# Altium schematic symbol library SamacSys.SchLib: 1311 symbols (part 7 of 14)
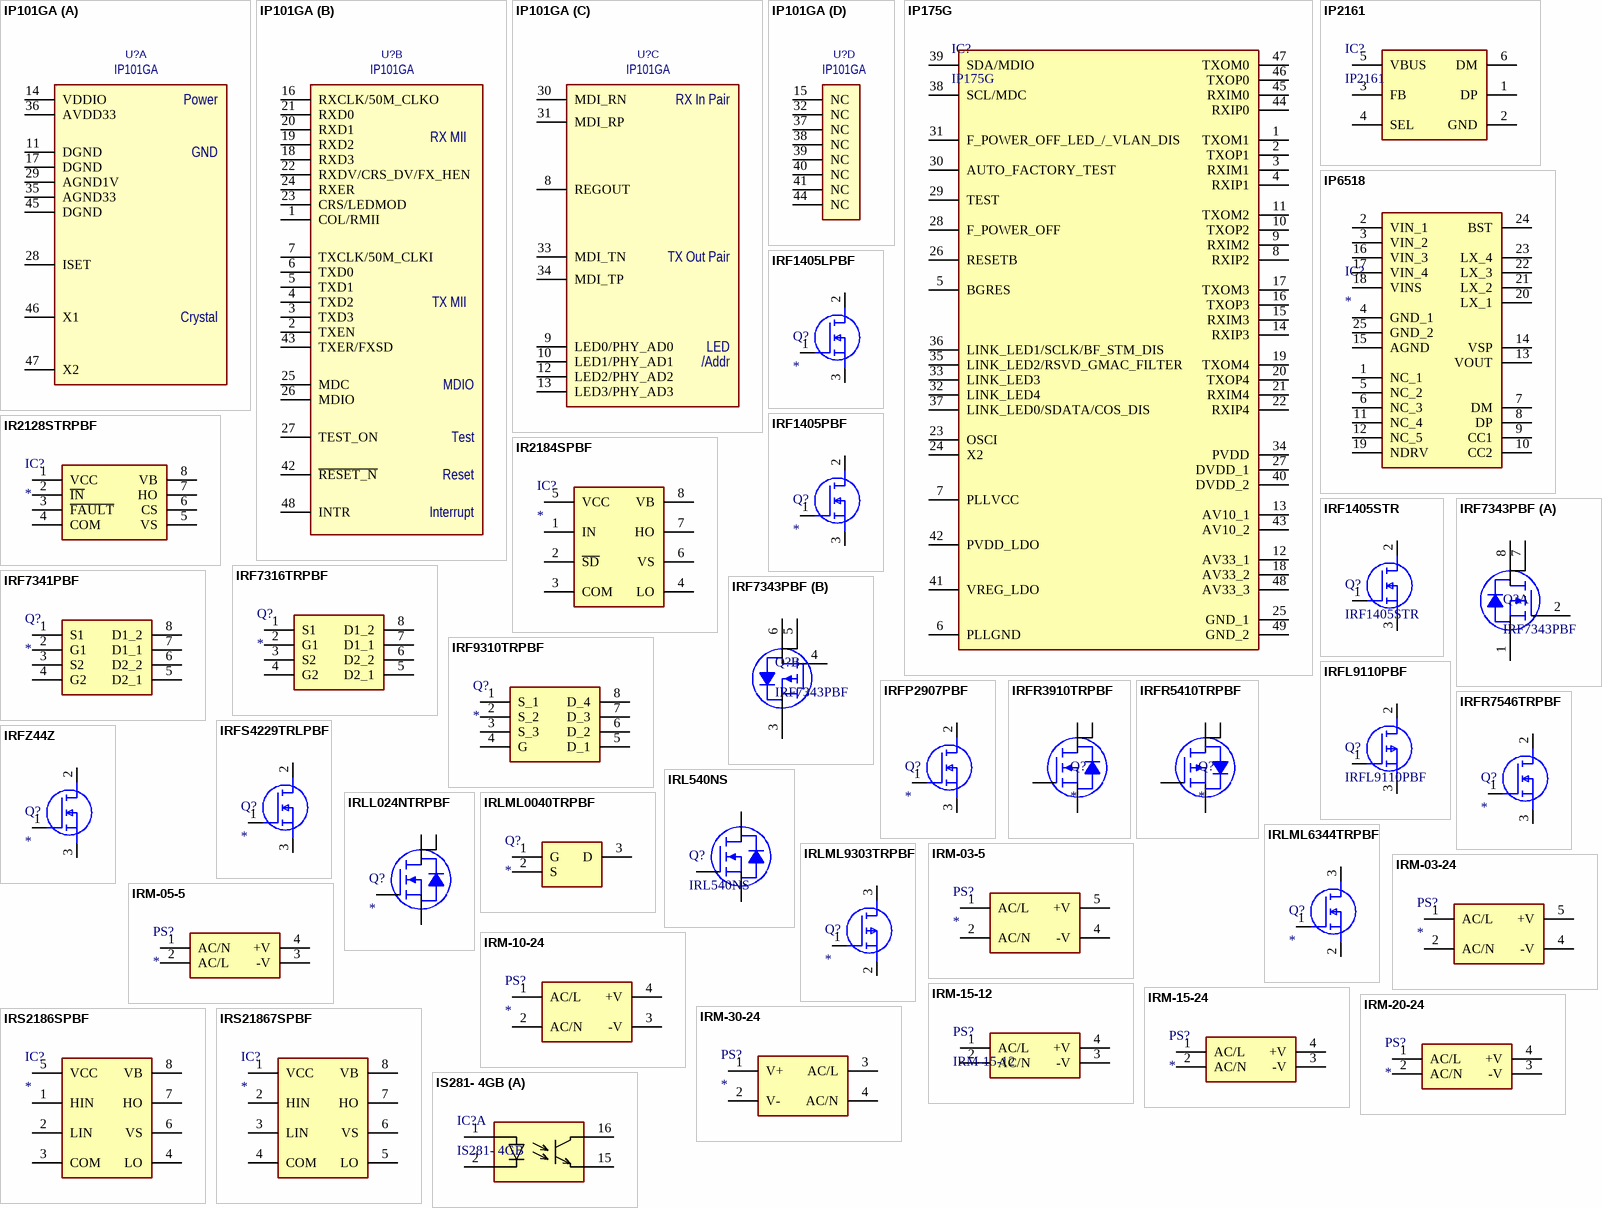
[diagram p56: symbols IP101GA to IS281- 4GB]

## IP6518
designator IC?
Integrated Circuit; Manufacturer_Name: INJOINIC Technology; Manufacturer_Part_Number: ip6518; Datasheet Link: http://www.injoinic.com/wwwroot/uploads/files/20200220/c55f78d32299df716a7c737ce28c2af2.pdf; Height: 0.8mm
footprint QFN50P400X400X80-25N-D
pins: 1 NC_1, 2 VIN_1, 3 VIN_2, 4 GND_1, 5 NC_2, 6 NC_3, 7 DM, 8 DP, 9 CC1, 10 CC2, 11 NC_4, 12 NC_5, 13 VOUT, 14 VSP, 15 AGND, 16 VIN_3, 17 VIN_4, 18 VINS, 19 NDRV, 20 LX_1, 21 LX_2, 22 LX_3, 23 LX_4, 24 BST, 25 GND_2

## IR2128STRPBF
designator IC?
Integrated Circuit; Manufacturer_Name: Infineon; Manufacturer_Part_Number: IR2128STRPBF; Datasheet Link: https://www.mouser.com/datasheet/2/196/Infineon_ir2127_DS_v01_00_EN-1227992.pdf; Height: 1.75mm; Mouser Part Number: 942-IR2128STRPBF; Mouser Price/Stock: https://www.mouser.co.uk/ProductDetail/Infineon-Technologies/IR2128STRPBF?qs=ellYJlE8XiGRviatAIz%2Fdw%3D%3D; Arrow Part Number: IR2128STRPBF; Arrow Price/Stock: https://www.arrow.com/en/products/ir2128strpbf/infineon-technologies-ag
footprint SOIC127P600X175-8N
pins: 1 VCC, 2 ~{IN}, 3 ~{FAULT}, 4 COM, 5 VS, 6 CS, 7 HO, 8 VB

## IR2184SPBF
designator IC?
Integrated Circuit; Manufacturer_Name: Infineon; Manufacturer_Part_Number: IR2184SPBF; Datasheet Link: https://www.infineon.com/cms/en/product/power/gate-driver-ics/?; Height: 1.75mm; Mouser Part Number: 942-IR2184SPBF; Mouser Price/Stock: https://www.mouser.co.uk/ProductDetail/Infineon-Technologies/IR2184SPBF?qs=dQmlx5f5cRIr5S5otnBboQ%3D%3D; Arrow Part Number: IR2184SPBF; Arrow Price/Stock: https://www.arrow.com/en/products/ir2184spbf/infineon-technologies-ag?region=europe
footprint SOIC127P600X175-8N
pins: 1 IN, 2 ~{SD}, 3 COM, 4 LO, 5 VCC, 6 VS, 7 HO, 8 VB

## IRF1405LPBF
designator Q?
MOSFET (N-Channel); Manufacturer_Name: Infineon; Manufacturer_Part_Number: IRF1405LPBF; Datasheet Link: https://www.infineon.com/dgdl/irf1405spbf.pdf?fileId=5546d462533600a4015355db101d18bd; Height: 4.83mm
footprint TO254P483X1016X1501-3P
pins: 1 G, 2 D, 3 S

## IRF1405PBF
designator Q?
MOSFET (N-Channel); Manufacturer_Name: Infineon; Manufacturer_Part_Number: IRF1405PBF; Datasheet Link: https://www.infineon.com/dgdl/irf1405pbf.pdf?fileId=5546d462533600a4015355db084a18bb; Height: 4.83mm; Mouser Part Number: 942-IRF1405PBF; Mouser Price/Stock: https://www.mouser.co.uk/ProductDetail/Infineon-Technologies/IRF1405PBF?qs=2r01AXMCG3PbVtF5tHk0jQ%3D%3D; Arrow Part Number: IRF1405PBF; Arrow Price/Stock: https://www.arrow.com/en/products/irf1405pbf/infineon-technologies-ag?region=europe
footprint TO254P483X1016X1994-3P
footprint TO254P483X1016X1994-3P_heatsink (with SK29-38S heatsink)
pins: 1 G, 2 D, 3 S

## IRF1405STR
designator Q?
MOSFET (N-Channel), 55V, 131A; Manufacturer_Name: Infineon; Datasheet Link: https://www.infineon.com/dgdl/irf1405spbf.pdf?fileId=5546d462533600a4015355db101d18bd; Height: 4.83mm; Manufacturer_Part_Number: IRF1405STR
footprint TO-263 (D2PAK)
pins: 1 G, 2 D, 3 S

## IRF7316TRPBF
designator Q?
Transistor; Manufacturer_Name: Infineon; Manufacturer_Part_Number: IRF7316TRPBF; Datasheet Link: https://datasheet.datasheetarchive.com/originals/distributors/Datasheets_SAMA/3e54ddf14293916d149d77f0514a31fb.pdf; Height: 1.75mm; Mouser Part Number: 942-IRF7316TRPBF; Mouser Price/Stock: https://www.mouser.co.uk/ProductDetail/Infineon-Technologies/IRF7316TRPBF?qs=9%252BKlkBgLFf1%252BV%2Fdbm7rl%252Bw%3D%3D; Arrow Part Number: IRF7316TRPBF; Arrow Price/Stock: https://www.arrow.com/en/products/irf7316trpbf/infineon-technologies-ag?utm_currency=USD&region=europe
footprint SOIC127P600X175-8N
pins: 1 S1, 2 G1, 3 S2, 4 G2, 5 D2_1, 6 D2_2, 7 D1_1, 8 D1_2

## IRF7341PBF
designator Q?
Transistor; Manufacturer_Name: Infineon; Manufacturer_Part_Number: IRF7341PBF; Datasheet Link: https://www.infineon.com/dgdl/irf7341pbf.pdf?fileId=5546d462533600a4015355f64f031b63; Height: 1.75mm; Mouser Part Number: 942-IRF7341PBF; Mouser Price/Stock: https://www.mouser.com/Search/Refine.aspx?Keyword=942-IRF7341PBF; Arrow Part Number: IRF7341PBF; Arrow Price/Stock: https://www.arrow.com/en/products/irf7341pbf/infineon-technologies-ag
footprint SOIC127P600X175-8N
pins: 1 S1, 2 G1, 3 S2, 4 G2, 5 D2_1, 6 D2_2, 7 D1_1, 8 D1_2

## IRF7343PBF
designator Q?
MOSFET DUAL P/N-ch 5/-5A; Manufacturer_Name: Infineon; Datasheet Link: https://www.infineon.com/dgdl/irf7343pbf.pdf?fileId=5546d462533600a4015355f68c1a1b73; Height: 1.75mm; Manufacturer_Part_Number: IRF7343PBF; Mouser Part Number: 942-IRF7343PBF; Mouser Price/Stock: https://www.mouser.co.uk/ProductDetail/Infineon-IR/IRF7343PBF?qs=oV44URRYgr3BtQItr9FXKw%3D%3D; Arrow Part Number: IRF7343PBF; Arrow Price/Stock: https://www.arrow.com/en/products/irf7343pbf/infineon-technologies-ag
footprint SOIC127P600X175-8N
part A pins: 1 S1, 2 G1, 7 D1_1, 8 D1_2
part B pins: 3 S2, 4 G2, 5 D2_1, 6 D2_2

## IRF9310TRPBF
designator Q?
MOSFET (P-Channel); Manufacturer_Name: Infineon; Manufacturer_Part_Number: IRF9310TRPBF; Datasheet Link: http://uk.rs-online.com/web/p/products/8273912; Height: 1.75mm; Mouser Part Number: 942-IRF9310TRPBF; Mouser Price/Stock: https://www.mouser.co.uk/ProductDetail/Infineon-IR/IRF9310TRPBF?qs=9%252BKlkBgLFf0NoechZyOTDg%3D%3D; Arrow Part Number: IRF9310TRPBF; Arrow Price/Stock: https://www.arrow.com/en/products/irf9310trpbf/infineon-technologies-ag
footprint SOIC127P600X175-8N
pins: 1 S_1, 2 S_2, 3 S_3, 4 G, 5 D_1, 6 D_2, 7 D_3, 8 D_4

## IRFL9110PBF
designator Q?
MOSFET (P-Channel) 100V 1.1A SOT223; Manufacturer_Name: Vishay; Datasheet Link: http://www.vishay.com/docs/91196/sihfl911.pdf; Height: 1.8mm; Manufacturer_Part_Number: IRFL9110PBF; Mouser Part Number: 844-IRFL9110PBF; Mouser Price/Stock: https://www.mouser.com/Search/Refine.aspx?Keyword=844-IRFL9110PBF
footprint SOT230P700X180-4N; pin to pad 2>2+4
pins: 1 G, 2 D, 3 S

## IRFP2907PBF
designator Q?
MOSFET (N-Channel); Manufacturer_Name: Infineon; Manufacturer_Part_Number: IRFP2907PBF; Datasheet Link: https://www.infineon.com/dgdl/irfp2907pbf.pdf?fileId=5546d462533600a401535628b2d51fe8; Height: 5.31mm; Mouser Part Number: 942-IRFP2907PBF; Mouser Price/Stock: https://www.mouser.co.uk/ProductDetail/Infineon-Technologies/IRFP2907PBF?qs=XgnB68EmdM1ZjadeHZwM5g%3D%3D; Arrow Part Number: IRFP2907PBF; Arrow Price/Stock: https://www.arrow.com/en/products/irfp2907pbf/infineon-technologies-ag
footprint TO546P531X1558X2499-3P (Footprint not found)
pins: 1 G, 2 D, 3 S

## IRFR3910TRPBF
designator Q?
Transistor; Manufacturer_Name: Infineon; Manufacturer_Part_Number: IRFR3910TRPBF; Datasheet Link: https://datasheet.datasheetarchive.com/originals/distributors/Datasheets_SAMA/52abf61b6082e0f6e43a5ed063c01714.pdf; Height: 2.39mm; Mouser Part Number: 942-IRFR3910TRPBF; Mouser Price/Stock: https://www.mouser.co.uk/ProductDetail/Infineon-IR/IRFR3910TRPBF?qs=XgnB68EmdM1RmOWRQY7vfw%3D%3D; Arrow Part Number: IRFR3910TRPBF; Arrow Price/Stock: https://www.arrow.com/en/products/irfr3910trpbf/infineon-technologies-ag?region=nac
footprint TO229P990X238-4N
pins: 1 G, 2 D, 3 S, 4 D

## IRFR5410TRPBF
designator Q?
Transistor; Manufacturer_Name: Infineon; Manufacturer_Part_Number: IRFR3910TRPBF; Datasheet Link: https://datasheet.datasheetarchive.com/originals/distributors/Datasheets_SAMA/52abf61b6082e0f6e43a5ed063c01714.pdf; Height: 2.39mm; Mouser Part Number: 942-IRFR3910TRPBF; Mouser Price/Stock: https://www.mouser.co.uk/ProductDetail/Infineon-IR/IRFR3910TRPBF?qs=XgnB68EmdM1RmOWRQY7vfw%3D%3D; Arrow Part Number: IRFR3910TRPBF; Arrow Price/Stock: https://www.arrow.com/en/products/irfr3910trpbf/infineon-technologies-ag?region=nac
footprint TO229P990X238-4N
pins: 1 G, 2 D, 3 S, 4 D

## IRFR7546TRPBF
designator Q?
MOSFET (N-Channel); Manufacturer_Name: Infineon; Manufacturer_Part_Number: IRFR7546TRPBF; Datasheet Link: https://www.infineon.com/dgdl/Infineon-IRFR7546-DataSheet-v01_01-EN.pdf?fileId=5546d462533600a401535635b9b3211f; Height: 2.52mm; Mouser Part Number: 942-IRFR7546TRPBF; Mouser Price/Stock: https://www.mouser.co.uk/ProductDetail/Infineon-IR/IRFR7546TRPBF?qs=NBFAU1oqP4VxNaQV6oj2cA%3D%3D; Arrow Part Number: IRFR7546TRPBF; Arrow Price/Stock: https://www.arrow.com/en/products/irfr7546trpbf/infineon-technologies-ag?region=nac
footprint IRFR7546TRPBF
pins: 1 G, 2 D, 3 S

## IRFS4229TRLPBF
designator Q?
MOSFET (N-Channel); Manufacturer_Name: Infineon; Manufacturer_Part_Number: IRFS4229TRLPBF; Datasheet Link: https://www.infineon.com/dgdl/irfs4229pbf.pdf?fileId=5546d462533600a401535639fdc421a1; Height: 5.084mm; Mouser Part Number: 942-IRFS4229TRLPBF; Mouser Price/Stock: https://www.mouser.co.uk/ProductDetail/Infineon-IR/IRFS4229TRLPBF?qs=9%252BKlkBgLFf0h%2FVzcoVYklQ%3D%3D; Arrow Part Number: IRFS4229TRLPBF; Arrow Price/Stock: https://www.arrow.com/en/products/irfs4229trlpbf/infineon-technologies-ag?utm_currency=USD&region=nac
footprint IRFS4229TRLPBF
pins: 1 G, 2 D, 3 S

## IRFZ44Z
designator Q?
MOSFET (N-Channel); Manufacturer_Name: Infineon; Manufacturer_Part_Number: IRFZ44Z; Datasheet Link: https://datasheet.datasheetarchive.com/originals/dk/DKDS-13/253960.pdf; Height: 4.69mm
footprint TO254P469X1042X1967-3P
pins: 1 G, 2 D, 3 S

## IRL540NS
designator Q?
MOSFET (N-Channel), 100V, 36A; Manufacturer_Name: Infineon; Manufacturer_Part_Number: IRL540NSTRLPBF; Datasheet Link: https://www.infineon.com/dgdl/Infineon-IRLL024N-DS-v01_02-EN.pdf?fileId=5546d462533600a401535664451725d3; Height: 1.8mm
footprint TO-263 (D2PAK)
pins: 1 G, 2 D, 3 S

## IRLL024NTRPBF
designator Q?
MOSFET (N-Channel); Manufacturer_Name: Infineon; Manufacturer_Part_Number: IRLL024NTRPBF; Datasheet Link: https://www.infineon.com/dgdl/Infineon-IRLL024N-DS-v01_02-EN.pdf?fileId=5546d462533600a401535664451725d3; Height: 1.8mm; Mouser Part Number: 942-IRLL024NTRPBF; Mouser Price/Stock: https://www.mouser.co.uk/ProductDetail/Infineon-Technologies/IRLL024NTRPBF?qs=9%252BKlkBgLFf2jug2IEBryTg%3D%3D; Arrow Part Number: IRLL024NTRPBF; Arrow Price/Stock: https://www.arrow.com/en/products/irll024ntrpbf/infineon-technologies-ag?utm_currency=USD&region=nac
footprint SOT230P700X180-4N
pins: 1 G, 2 D, 3 S, 4 D

## IRLML0040TRPBF
designator Q?
Transistor; Manufacturer_Name: Infineon; Manufacturer_Part_Number: IRLML0040TRPBF; Datasheet Link: https://www.infineon.com/dgdl/irlml0040pbf.pdf?fileId=5546d462533600a401535664894825e4; Height: 1.12mm; Mouser Part Number: 942-IRLML0040TRPBF; Mouser Price/Stock: https://www.mouser.co.uk/ProductDetail/Infineon-Technologies/IRLML0040TRPBF?qs=9%252BKlkBgLFf00XkbMz%2F7COA%3D%3D; Arrow Part Number: IRLML0040TRPBF; Arrow Price/Stock: https://www.arrow.com/en/products/irlml0040trpbf/infineon-technologies-ag?region=nac
footprint SOT95P237X112-3N
pins: 1 G, 2 S, 3 D

## IRLML6344TRPBF
designator Q?
MOSFET (N-Channel); Manufacturer_Name: Infineon; Manufacturer_Part_Number: IRLML6344TRPBF; Datasheet Link: https://www.infineon.com/dgdl/irlml6344pbf.pdf?fileId=5546d462533600a4015356689c44262c; Height: 1.12mm; Mouser Part Number: 942-IRLML6344TRPBF; Mouser Price/Stock: https://www.mouser.co.uk/ProductDetail/Infineon-Technologies/IRLML6344TRPBF?qs=9%252BKlkBgLFf2w4qS48UOXVw%3D%3D; Arrow Part Number: IRLML6344TRPBF; Arrow Price/Stock: https://www.arrow.com/en/products/irlml6344trpbf/infineon-technologies-ag.html?utm_currency=USD&region=europe
footprint SOT95P237X112-3N
pins: 1 G, 2 S, 3 D

## IRLML9303TRPBF
designator Q?
MOSFET (P-Channel); Manufacturer_Name: Infineon; Manufacturer_Part_Number: IRLML9303TRPBF; Datasheet Link: https://www.infineon.com/dgdl/irlml9303pbf.pdf?fileId=5546d462533600a401535668ef1d2642; Height: 1.12mm; Mouser Part Number: 942-IRLML9303TRPBF; Mouser Price/Stock: https://www.mouser.co.uk/ProductDetail/Infineon-Technologies/IRLML9303TRPBF?qs=9%252BKlkBgLFf05a7CIFh1iNQ%3D%3D; Arrow Part Number: IRLML9303TRPBF; Arrow Price/Stock: https://www.arrow.com/en/products/irlml9303trpbf/infineon-technologies-ag?region=nac
footprint SOT95P237X112-3N
pins: 1 G, 2 S, 3 D

## IRM-03-5
designator PS?
Power Supply; Manufacturer_Name: Mean Well; Manufacturer_Part_Number: IRM-03-5; Datasheet Link: https://www.meanwell.com/Upload/PDF/IRM-03/IRM-03-SPEC.PDF; Height: 15.5mm; Mouser Part Number: 709-IRM03-5; Mouser Price/Stock: https://www.mouser.co.uk/ProductDetail/MEAN-WELL/IRM-03-5?qs=NKmfXavxMazJdFbXlu0eDA%3D%3D; Arrow Part Number: IRM-03-5; Arrow Price/Stock: https://www.arrow.com/en/products/irm-03-5/mean-well-enterprises?utm_currency=USD&region=europe
footprint IRM035 (Footprint not found)
pins: 1 AC/L, 2 AC/N, 4 -V, 5 +V

## IRM-03-24
designator PS?
Power Supply; Manufacturer_Name: Mean Well; Manufacturer_Part_Number: IRM-03-24; Datasheet Link: https://www.meanwell.com/Upload/PDF/IRM-03/IRM-03-SPEC.PDF; Height: 15.5mm; Mouser Part Number: 709-IRM03-24; Mouser Price/Stock: https://www.mouser.co.uk/ProductDetail/MEAN-WELL/IRM-03-24?qs=NKmfXavxMay6RYM1XoT5bQ%3D%3D; Arrow Part Number: IRM-03-24; Arrow Price/Stock: https://www.arrow.com/en/products/irm-03-24/mean-well-enterprises?utm_currency=USD&region=europe
footprint IRM035 (Footprint not found)
pins: 1 AC/L, 2 AC/N, 4 -V, 5 +V

## IRM-05-5
designator PS?
Power Supply; Manufacturer_Name: Mean Well; Manufacturer_Part_Number: IRM-05-5; Datasheet Link: https://www.mouser.fr/datasheet/2/260/r1936_3-1109422.pdf; Height: 21.5mm; Mouser Part Number: 709-IRM05-5; Mouser Price/Stock: https://www.mouser.co.uk/ProductDetail/MEAN-WELL/IRM-05-5?qs=WkdRfq4wf1OdYoHS8Am9VA%3D%3D; Arrow Part Number: IRM-05-5; Arrow Price/Stock: https://www.arrow.com/en/products/irm-05-5/mean-well-enterprises?region=europe
footprint IRM055
pins: 1 AC/N, 2 AC/L, 3 -V, 4 +V

## IRM-10-24
designator PS?
Power Supply; Manufacturer_Name: Mean Well; Manufacturer_Part_Number: IRM-10-24; Datasheet Link: https://www.meanwell.com/Upload/PDF/IRM-10/IRM-10-SPEC.PDF; Mouser Part Number: 709-IRM10-24; Mouser Price/Stock: https://www.mouser.co.uk/ProductDetail/MEAN-WELL/IRM-10-24?qs=WkdRfq4wf1NO1GZglXcDxA%3D%3D; Arrow Part Number: IRM-10-24; Arrow Price/Stock: https://www.arrow.com/en/products/irm-10-24/mean-well-enterprises?utm_currency=USD&region=europe
footprint IRM-10
pins: 1 AC/L, 2 AC/N, 3 -V, 4 +V

## IRM-15-12
designator PS?
Power Supply 220->12V; Manufacturer_Name: Mean Well; Datasheet Link: https://componentsearchengine.com/Datasheets/2/IRM-15-24.pdf; Manufacturer_Part_Number: IRM-15-12; Mouser Part Number: 709-IRM15-12; Mouser Price/Stock: https://www.mouser.co.uk/ProductDetail/MEAN-WELL/IRM-15-24?qs=WkdRfq4wf1PZSEWhZtKDbQ%3D%3D; Arrow Part Number: IRM-15-24; Arrow Price/Stock: https://www.arrow.com/en/products/irm-15-24/mean-well-enterprises?utm_currency=USD&region=europe
footprint IRM-15
pins: 1 AC/L, 2 AC/N, 3 -V, 4 +V

## IRM-15-24
designator PS?
Power Supply; Manufacturer_Name: Mean Well; Manufacturer_Part_Number: IRM-15-24; Datasheet Link: https://componentsearchengine.com/Datasheets/2/IRM-15-24.pdf; Mouser Part Number: 709-IRM15-24; Mouser Price/Stock: https://www.mouser.co.uk/ProductDetail/MEAN-WELL/IRM-15-24?qs=WkdRfq4wf1PZSEWhZtKDbQ%3D%3D; Arrow Part Number: IRM-15-24; Arrow Price/Stock: https://www.arrow.com/en/products/irm-15-24/mean-well-enterprises?utm_currency=USD&region=europe
footprint IRM-15
pins: 1 AC/L, 2 AC/N, 3 -V, 4 +V

## IRM-20-24
designator PS?
Power Supply; Manufacturer_Name: Mean Well; Manufacturer_Part_Number: IRM-20-24; Datasheet Link: https://www.meanwell-web.com/content/files/pdfs/productPdfs/MW/IRM-20/IRM-20-spec.pdf; Height: 24mm; Mouser Part Number: 709-IRM20-24; Mouser Price/Stock: https://www.mouser.co.uk/ProductDetail/MEAN-WELL/IRM-20-24?qs=WkdRfq4wf1PztyfgJARp0A%3D%3D; Arrow Part Number: IRM-20-24; Arrow Price/Stock: https://www.arrow.com/en/products/irm-20-24/mean-well-enterprises?utm_currency=USD&region=europe
footprint IRM2024
pins: 1 AC/L, 2 AC/N, 3 -V, 4 +V

## IRM-30-24
designator PS?
Power Supply; Manufacturer_Name: Mean Well; Manufacturer_Part_Number: IRM-30-24; Datasheet Link: https://datasheet.datasheetarchive.com/originals/distributors/DKDS-14/277834.pdf; Mouser Part Number: 709-IRM30-24; Mouser Price/Stock: https://www.mouser.co.uk/ProductDetail/MEAN-WELL/IRM-30-24?qs=Ubm%252Bqu3%2FQAuqOQwEFhBB8g%3D%3D; Arrow Part Number: IRM-30-24; Arrow Price/Stock: https://www.arrow.com/en/products/irm-30-24/mean-well-enterprises
footprint IRM-30-24
pins: 1 V+, 2 V-, 3 AC/L, 4 AC/N

## IRS2186SPBF
designator IC?
Integrated Circuit; Manufacturer_Name: Infineon; Manufacturer_Part_Number: IRS2186SPBF; Datasheet Link: https://www.infineon.com/cms/en/product/power/gate-driver-ics/?; Height: 1.75mm; Mouser Part Number: 942-IRS2186SPBF; Mouser Price/Stock: https://www.mouser.co.uk/ProductDetail/Infineon-Technologies/IRS2186SPbF?qs=ellYJlE8XiF9fMpCJZhfAg%3D%3D; Arrow Part Number: IRS2186SPBF; Arrow Price/Stock: https://www.arrow.com/en/products/irs2186spbf/infineon-technologies-ag?region=europe
footprint SOIC127P600X175-8N
pins: 1 HIN, 2 LIN, 3 COM, 4 LO, 5 VCC, 6 VS, 7 HO, 8 VB

## IRS21867SPBF
designator IC?
Integrated Circuit; Manufacturer_Name: Infineon; Manufacturer_Part_Number: IRS21867SPBF; Datasheet Link: https://www.infineon.com/cms/en/product/power/gate-driver-ics/?; Height: 1.75mm; Mouser Part Number: 942-IRS21867SPBF; Mouser Price/Stock: https://www.mouser.co.uk/ProductDetail/Infineon-Technologies/IRS21867SPBF?qs=Z8%252BeY1k3TIIQPD0B9bASkw%3D%3D; Arrow Part Number: IRS21867SPBF; Arrow Price/Stock: https://www.arrow.com/en/products/irs21867spbf/infineon-technologies-ag?region=nac
footprint SOIC127P600X175-8N
pins: 1 VCC, 2 HIN, 3 LIN, 4 COM, 5 LO, 6 VS, 7 HO, 8 VB

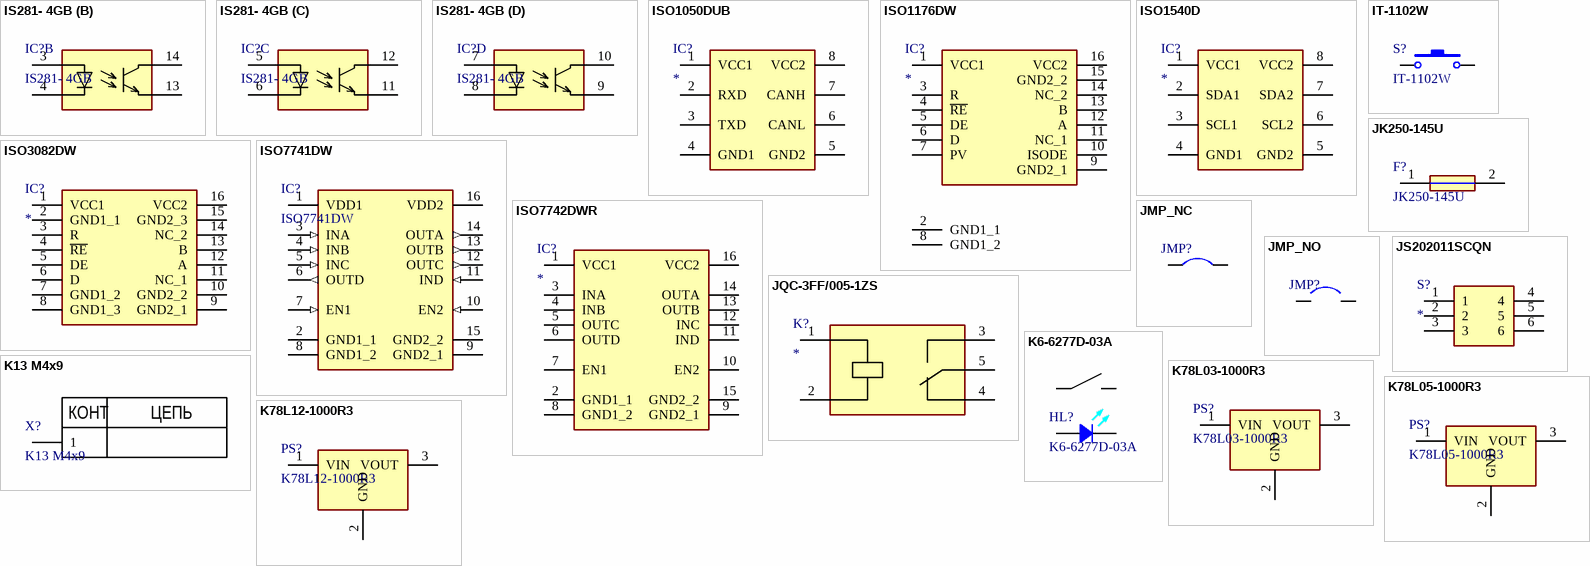
[diagram p22: symbols IS281- 4GB to K78L12-1000R3]

## IS281- 4GB
designator IC?
OPTOISOLATOR 3.75KV 4CH TRANS; Manufacturer_Name: Lite-On; Manufacturer_Part_Number: LTV847S; Datasheet Link: https://www.mouser.pe/datasheet/2/239/LTV-8X7_series_201610_-1544776.pdf; Height: 4.6mm
footprint SOIC127P700X210-16N
part A pins: 1 A_1, 2 K_1, 15 E_4, 16 C_4
part B pins: 3 A_2, 4 K_2, 13 E_3, 14 C_3
part C pins: 5 A_3, 6 K_3, 11 E_2, 12 C_2
part D pins: 7 A_4, 8 K_4, 9 E_1, 10 C_1

## ISO1050DUB
designator IC?
Integrated Circuit, CAN Isolator; Manufacturer_Name: Texas Instruments; Manufacturer_Part_Number: ISO1050DUB; Datasheet Link: https://datasheet.datasheetarchive.com/originals/distributors/Datasheets-SFU2/DSASFU100032000.pdf; Height: 4.85mm; Mouser Part Number: 595-ISO1050DUB; Mouser Price/Stock: https://www.mouser.co.uk/ProductDetail/Texas-Instruments/ISO1050DUB?qs=IK5e5L0zOXiBKtns%252BwxBWw%3D%3D; Arrow Part Number: ISO1050DUB; Arrow Price/Stock: https://www.arrow.com/en/products/iso1050dub/texas-instruments?region=nac
footprint SOP254P1040X485-8N
pins: 1 VCC1, 2 RXD, 3 TXD, 4 GND1, 5 GND2, 6 CANL, 7 CANH, 8 VCC2

## ISO1176DW
designator IC?
Integrated Circuit; Manufacturer_Name: Texas Instruments; Manufacturer_Part_Number: ISO1176DW; Datasheet Link: http://www.ti.com/lit/gpn/iso1176; Height: 2.65mm; Mouser Part Number: 595-ISO1176DW; Mouser Price/Stock: https://www.mouser.co.uk/ProductDetail/Texas-Instruments/ISO1176DW?qs=wkx8pu8tL7LYSzCGIYzYEQ%3D%3D; Arrow Part Number: ISO1176DW; Arrow Price/Stock: https://www.arrow.com/en/products/iso1176dw/texas-instruments?region=nac
footprint SOIC127P1030X265-16N
pins: 1 VCC1, 2 GND1_1, 3 R, 4 ~{RE}, 5 DE, 6 D, 7 PV, 8 GND1_2, 9 GND2_1, 10 ISODE, 11 NC_1, 12 A, 13 B, 14 NC_2, 15 GND2_2, 16 VCC2

## ISO1540D
designator IC?
Integrated Circuit, I2C Isolator; Manufacturer_Name: Texas Instruments; Manufacturer_Part_Number: ISO1540D; Datasheet Link: http://www.ti.com/lit/gpn/iso1540; Height: 1.75mm; Mouser Part Number: 595-ISO1540D; Mouser Price/Stock: https://www.mouser.co.uk/ProductDetail/Texas-Instruments/ISO1540D?qs=rg6Iqu58vpWvO86XnJi3%2Fg%3D%3D; Arrow Part Number: ISO1540D; Arrow Price/Stock: null?region=nac
footprint SOIC127P600X175-8N
pins: 1 VCC1, 2 SDA1, 3 SCL1, 4 GND1, 5 GND2, 6 SCL2, 7 SDA2, 8 VCC2

## ISO3082DW
designator IC?
IC, RS-485 Driver +  Isolator; Manufacturer_Name: Texas Instruments; Manufacturer_Part_Number: ISO3082DW; Datasheet Link: http://uk.rs-online.com/web/p/products/7092255; Height: 2.65mm; Mouser Part Number: 595-ISO3082DW; Mouser Price/Stock: https://www.mouser.co.uk/ProductDetail/Texas-Instruments/ISO3082DW?qs=5gBG3L055oOba23GzaXsQQ%3D%3D; Arrow Part Number: ISO3082DW; Arrow Price/Stock: https://www.arrow.com/en/products/iso3082dw/texas-instruments?region=asia
footprint SOIC127P1030X265-16N
pins: 1 VCC1, 2 GND1_1, 3 R, 4 ~{RE}, 5 DE, 6 D, 7 GND1_2, 8 GND1_3, 9 GND2_1, 10 GND2_2, 11 NC_1, 12 A, 13 B, 14 NC_2, 15 GND2_3, 16 VCC2

## ISO7741DW
designator IC?
High-Speed Digital Isolator; Manufacturer_Name: Texas Instruments; Datasheet Link: http://www.ti.com/lit/gpn/iso7741; Height: 2.65mm; Manufacturer_Part_Number: ISO7741DW; Mouser Part Number: 595-ISO7741DW; Mouser Price/Stock: https://www.mouser.co.uk/ProductDetail/Texas-Instruments/ISO7741DW?qs=dSktwyqbRaUrT%2FInALe%2Fqw%3D%3D; Arrow Part Number: ISO7741DW; Arrow Price/Stock: https://www.arrow.com/en/products/iso7741dw/texas-instruments?utm_currency=USD&region=asia
footprint SOIC127P1030X265-16N
pins: 1 VDD1, 2 GND1_1, 3 INA (in), 4 INB (in), 5 INC (in), 6 OUTD (out), 7 EN1 (in), 8 GND1_2, 9 GND2_1, 10 EN2 (in), 11 IND (in), 12 OUTC (out), 13 OUTB (out), 14 OUTA (out), 15 GND2_2, 16 VDD2

## ISO7742DWR
designator IC?
Integrated Circuit; Manufacturer_Name: Texas Instruments; Manufacturer_Part_Number: ISO7742DWR; Datasheet Link: http://www.ti.com/lit/ds/symlink/iso7741.pdf; Height: 2.65mm; Mouser Part Number: 595-ISO7742DWR; Mouser Price/Stock: https://www.mouser.co.uk/ProductDetail/Texas-Instruments/ISO7742DWR?qs=dSktwyqbRaUowi%252BZ6jL%252B7A%3D%3D; Arrow Part Number: ISO7742DWR; Arrow Price/Stock: https://www.arrow.com/en/products/iso7742dwr/texas-instruments?utm_currency=USD&region=nac
footprint SOIC127P1030X265-16N
pins: 1 VCC1, 2 GND1_1, 3 INA, 4 INB, 5 OUTC, 6 OUTD, 7 EN1, 8 GND1_2, 9 GND2_1, 10 EN2, 11 IND, 12 INC, 13 OUTB, 14 OUTA, 15 GND2_2, 16 VCC2

## IT-1102W
designator S?
Switch Tact; Manufacturer_Name: Ruichi; Datasheet Link: https://ruelectronics.com/files/IT-1102W%20(6x6x4,3)_83348-324dcfca74f1cc36817aee9d5b4f5ec5.pdf; Height: 5mm; Manufacturer_Part_Number: IT-1102W
footprint IT-1102W (6mm tactile button); pin to pad 1>1+2 2>3+4
pins: 1, 2

## JK250-145U
designator F?
PTC 250V 145mA Plugin Resettable Fuses; Manufacturer_Name: JinRui; Datasheet Link: https://www.lcsc.com/datasheet/lcsc_datasheet_2304140030_Jinrui-Electronic-Materials-Co--JK250-145U_C369131.pdf; Height: 10.5mm; Manufacturer_Part_Number: JK250-145U; LCSC: C369131
footprint TRF250183
pins: 1, 2

## JMP_NC
designator JMP?  (value not drawn)
Manufacturer_Name: JST (JAPAN SOLDERLESS TERMINALS); Manufacturer_Part_Number: S4B-PH-SM4-TB(LF)(SN); Datasheet Link: http://uk.rs-online.com/web/p/products/6881366; Arrow Part Number: S4B-PH-SM4-TB(LF)(SN); Arrow Price/Stock: https://www.arrow.com/en/products/s4b-ph-sm4-tb-lf-sn/jst-manufacturing
footprint SOLDER_JUMPER_NC (Footprint not found)
pins: 1, 2

## JMP_NO
designator JMP?  (value not drawn)
Manufacturer_Name: JST (JAPAN SOLDERLESS TERMINALS); Manufacturer_Part_Number: S4B-PH-SM4-TB(LF)(SN); Datasheet Link: http://uk.rs-online.com/web/p/products/6881366; Arrow Part Number: S4B-PH-SM4-TB(LF)(SN); Arrow Price/Stock: https://www.arrow.com/en/products/s4b-ph-sm4-tb-lf-sn/jst-manufacturing
footprint SOLDER_JUMPER
pins: 1, 2

## JQC-3FF/005-1ZS
designator K?
Relay or Contactor; Manufacturer_Name: HF(Xiamen Hongfa Electroacoustic); Manufacturer_Part_Number: JQC-3FF/005-1ZS; Datasheet Link: https://img.ozdisan.com/ETicaret_Dosya/341245_8627675.pdf; Height: 15.5mm; LCSC Part #: C9221
footprint JQC3FT731Z12VDC
pins: 1 COIL_1, 2 NC, 3 NO, 4 COIL_2, 5 COM

## JS202011SCQN
designator S?
Switch; Manufacturer_Name: C & K COMPONENTS; Manufacturer_Part_Number: JS202011SCQN; Datasheet Link: https://www.ckswitches.com/media/1422/js.pdf; Height: 5.5mm; Mouser Part Number: 611-JS202011SCQN; Mouser Price/Stock: https://www.mouser.co.uk/ProductDetail/CK/JS202011SCQN?qs=LgMIjt8LuD95JYWxZ7NvZA%3D%3D; Arrow Part Number: JS202011SCQN; Arrow Price/Stock: https://www.arrow.com/en/products/js202011scqn/ck?region=nac
footprint JS202011SCQN (Footprint not found)
pins: 1, 2, 3, 4, 5, 6

## K6-6277D-03A
designator HL?
SW + LED,, Blue; Manufacturer_Name: Korean Hroparts Elec; Datasheet Link: https://datasheet.datasheetarchive.com/originals/distributors/Datasheets-16/DSA-309848.pdf; Manufacturer_Part_Number: K6-6277D-03A; Mouser Part Number: N/A; Mouser Price/Stock: https://www.mouser.co.uk/ProductDetail/Kingbright/KP-2012MGC?qs=2JU0tDl2GZ0DzyNwePJZSw%3D%3D; Arrow Part Number: KP-2012QBC-D; Arrow Price/Stock: https://www.arrow.com/en/products/kp-2012mgc/kingbright
footprint K6-6277D (Footprint not found)
pins: 1, 2, 3 C, 4 A

## K13 M4x9
designator X?
Terminal Screw Type, 18-14AWG; Manufacturer_Name: Degson; Manufacturer_Part_Number: DG128-5.0-02P-14; Datasheet Link: https://www.degson.com/index.php?a=downloadFile&id=1097383&name=%27ZmlsZTQ=%27&lang=en; Height: 14.26mm
footprint K13 M4*9; pin to pad 1>1+2+3+4
pins: 1
text: КОНТ; ЦЕПЬ

## K78L03-1000R3
designator PS?
DC DC NON ISO 3.3V 1A 6.5V~36V Input; Manufacturer_Name: Mornsun; Datasheet Link: https://tracopower.com/tmh-datasheet/; Height: 10.45mm; Manufacturer_Part_Number: K78L03-1000R3
footprint K78Lxx-1000R3
footprint K78Lxx-500/1000ser
footprint K78xx-500/1000ser
pins: 1 VIN, 2 GND, 3 VOUT

## K78L05-1000R3
designator PS?
DC DC NON ISO 5V 1A 6.5V~36V Input; Manufacturer_Name: Mornsun; Datasheet Link: https://cdn.promelec.ru/upload/items/2025/03/24/K78Lxx-1000R3.pdf; Height: 10.45mm; Manufacturer_Part_Number: K78L05-1000R3
footprint K78Lxx-1000R3
footprint K78Lxx-500/1000ser
footprint K78xx-500/1000ser
pins: 1 VIN, 2 GND, 3 VOUT

## K78L12-1000R3
designator PS?
DC DC NON ISO 12V 1A 6.5V~36V Input; Manufacturer_Name: Mornsun; Datasheet Link: https://cdn.promelec.ru/upload/items/2025/03/24/K78Lxx-1000R3.pdf; Height: 10.45mm; Manufacturer_Part_Number: K78L12-1000R3
footprint K78Lxx-1000R3
footprint K78Lxx-500/1000ser
footprint K78xx-500/1000ser
pins: 1 VIN, 2 GND, 3 VOUT

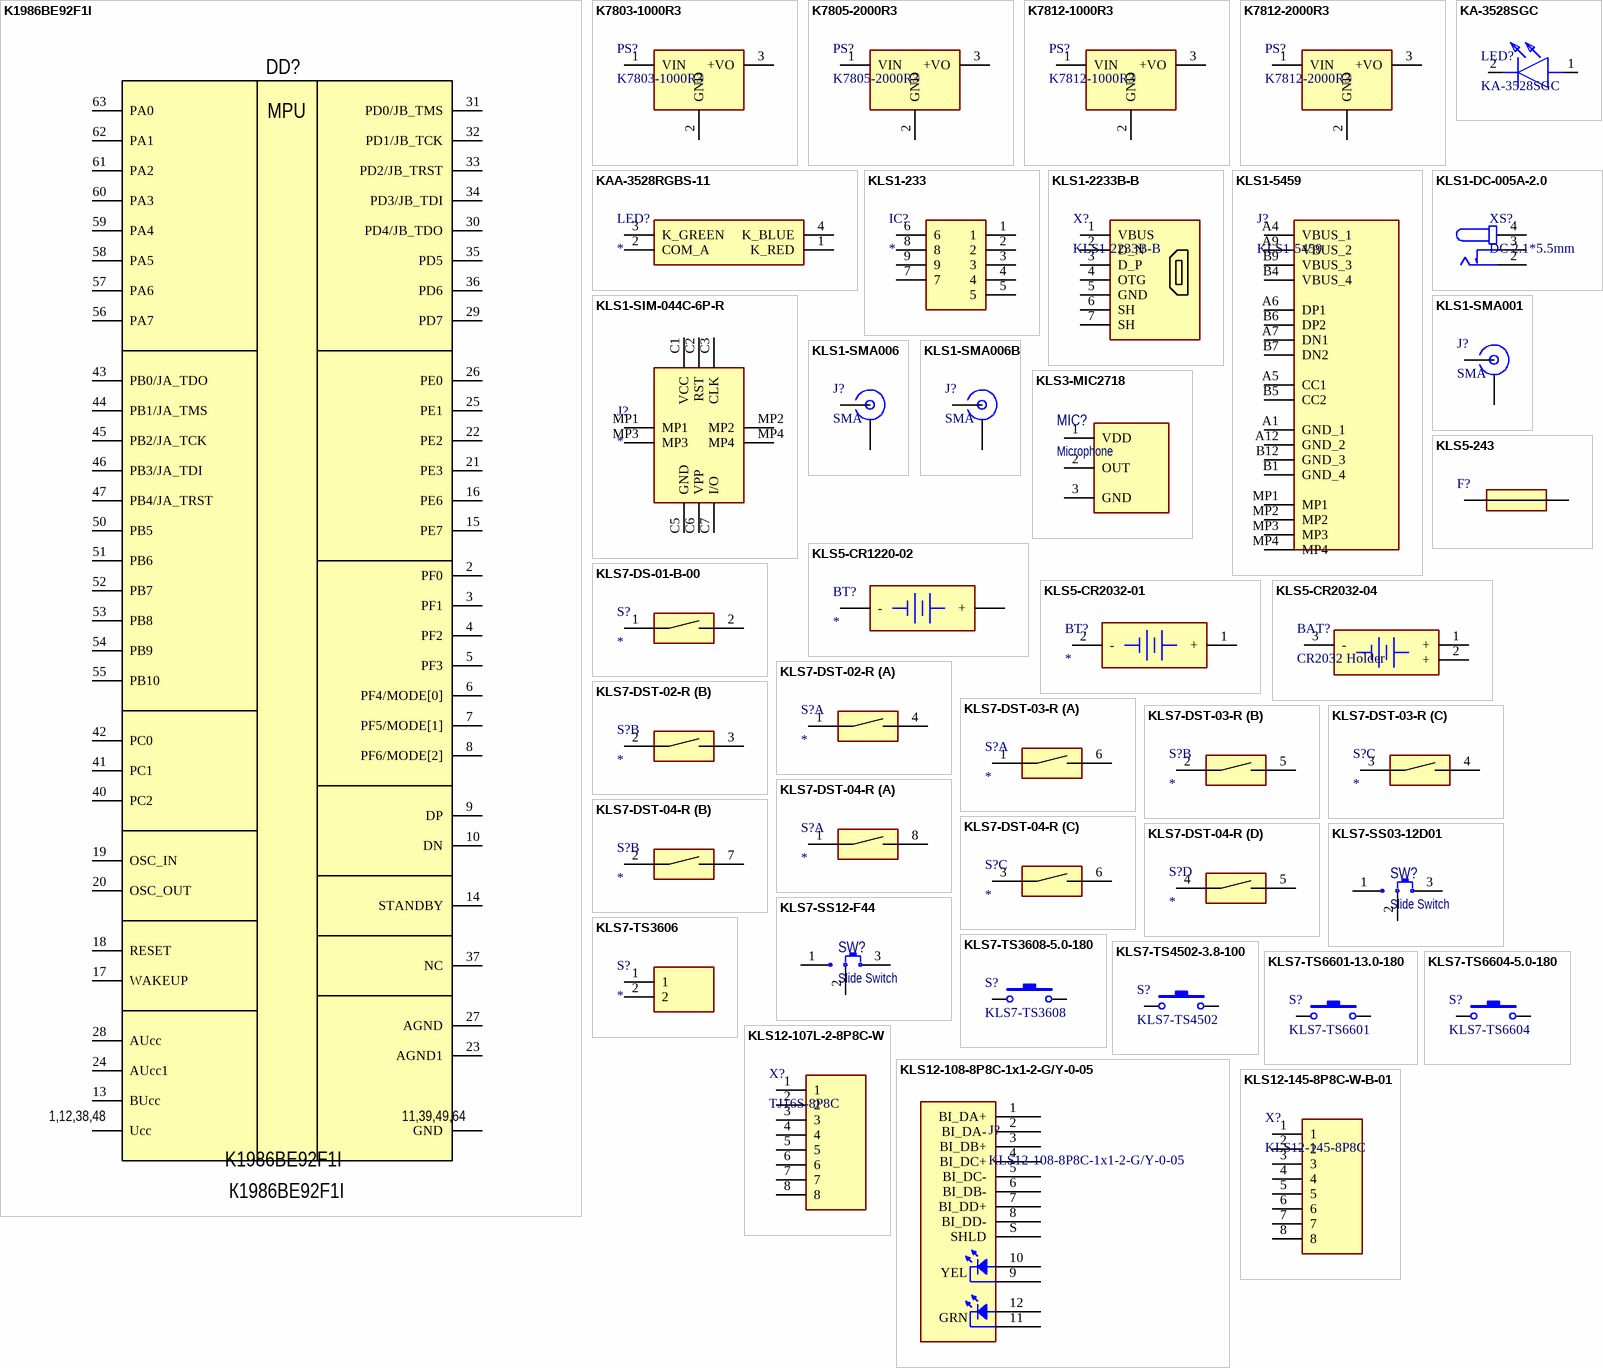
[diagram p23: symbols K1986BE92F1I to KLS12-145-8P8C-W-B-01]

## K1986BE92F1I
designator DD?
IC MCU 32bit
footprint QFN50P1200X1200X180-64M (QFN, 64-Leads, Body 12,00x12,00mm, Pitch 0,50mm, IPC Low Density)
pins: 1 Ucc, 2 PF0, 3 PF1, 4 PF2, 5 PF3, 6 PF4/MODE[0], 7 PF5/MODE[1], 8 PF6/MODE[2], 9 DP, 10 DN, 11 GND, 12 Ucc, 13 BUcc, 14 STANDBY, 15 PE7, 16 PE6, 17 WAKEUP, 18 RESET, 19 OSC_IN, 20 OSC_OUT, 21 PE3, 22 PE2, 23 AGND1, 24 AUcc1, 25 PE1, 26 PE0, 27 AGND, 28 AUcc, 29 PD7, 30 PD4/JB_TDO, 31 PD0/JB_TMS, 32 PD1/JB_TCK, 33 PD2/JB_TRST, 34 PD3/JB_TDI, 35 PD5, 36 PD6, 37 NC, 38 Ucc, 39 GND, 40 PC2, 41 PC1, 42 PC0, 43 PB0/JA_TDO, 44 PB1/JA_TMS, 45 PB2/JA_TCK, 46 PB3/JA_TDI, 47 PB4/JA_TRST, 48 Ucc, 49 GND, 50 PB5, 51 PB6, 52 PB7, 53 PB8, 54 PB9, 55 PB10, 56 PA7, 57 PA6, 58 PA5, 59 PA4, 60 PA3, 61 PA2, 62 PA1, 63 PA0, 64 GND
text: MPU; 1,12,38,48; 11,39,49,64

## K7803-1000R3
designator PS?
DCDC, Non Isolated, 3,3V, 1W; Manufacturer_Name: MORNSUN; Manufacturer_Part_Number: K7805-1000R3; Datasheet Link: https://www.mornsun-power.com/html/pdf/K7805-2000R3.html; Height: 18mm
footprint K78xx-1000R3
pins: 1 VIN, 2 GND, 3 +VO

## K7805-2000R3
designator PS?
DCDC, Non Isolated, 5V, 2W; Manufacturer_Name: MORNSUN; Datasheet Link: https://www.mornsun-power.com/html/pdf/K7805-2000R3.html; Height: 18mm; Manufacturer_Part_Number: K7805-2000R3
footprint K78052000R3
pins: 1 VIN, 2 GND, 3 +VO

## K7812-1000R3
designator PS?
DCDC, Non Isolated, 12V, 1W; Manufacturer_Name: MORNSUN; Datasheet Link: https://www.mornsun-power.com/html/pdf/K7805-2000R3.html; Height: 18mm; Manufacturer_Part_Number: K7812-1000R3
footprint K78xx-1000R3
pins: 1 VIN, 2 GND, 3 +VO

## K7812-2000R3
designator PS?
DCDC, Non Isolated, 12V, 2W; Manufacturer_Name: MORNSUN; Datasheet Link: https://www.mornsun-power.com/html/pdf/K7805-2000R3.html; Height: 18mm; Manufacturer_Part_Number: K7812-2000R3
footprint K78052000R3
pins: 1 VIN, 2 GND, 3 +VO

## KA-3528SGC
designator LED?
LED; Manufacturer_Name: Kingbright; Datasheet Link: https://componentsearchengine.com/Datasheets/2/KA-3528SGC.pdf; Height: 2.1mm; Manufacturer_Part_Number: KA-3528SGC; Mouser Part Number: N/A; Mouser Price/Stock: https://www.mouser.co.uk/ProductDetail/Kingbright/KA-3528SGC?qs=Kyi72x88zz13uqpLS2dkBg%3D%3D; Arrow Part Number: KA-3528SGC; Arrow Price/Stock: https://www.arrow.com/en/products/ka-3528sgc/kingbright
footprint KA3528SGC
pins: 1 A, 2 K

## KAA-3528RGBS-11
designator LED?
LED; Manufacturer_Name: Kingbright; Manufacturer_Part_Number: KAA-3528RGBS-11; Datasheet Link: http://www.kingbright.com/attachments/file/psearch/000/00/20160808bak/KAA-3528RGBS-11(Ver.3B).pdf; Height: 2.1mm; Mouser Part Number: N/A; Mouser Price/Stock: https://www.mouser.co.uk/ProductDetail/Kingbright/KAA-3528RGBS-11?qs=8qEfIxKlfRlmdzsj8blhNw%3D%3D; Arrow Part Number: KAA-3528RGBS-11; Arrow Price/Stock: https://www.arrow.com/en/products/kaa-3528rgbs-11/kingbright
footprint KAA3528RGBS11
pins: 1 K_RED, 2 COM_A, 3 K_GREEN, 4 K_BLUE

## KLS1-233
designator IC?
Integrated Circuit; Manufacturer_Name: KLS Electronic; Manufacturer_Part_Number: KLS1-233; Height: 2mm
footprint KLS1233
pins: 1, 2, 3, 4, 5, 6, 7, 8, 9

## KLS1-2233B-B
designator X?
Connector, USB, Micro USB 2.0 Vertical; Manufacturer: KLS; Datasheet Link: https://static.chipdip.ru/lib/747/DOC042747020.pdf; Part Number: KLS1-2233B-B; Manufacturer 2: GCT; Part Number 2: USB3130
footprint KLS1-2233B (Micro USB Vertical)
pins: 1 VBUS, 2 D_N, 3 D_P, 4 OTG, 5 GND, 6 SH, 7 SH

## KLS1-5459
designator J?
Connector, USB, TypeC, Vertical, TH; Manufacturer_Name: KLS; Height: 3.21mm; Manufacturer_Part_Number: KLS1-5459
footprint KLS1-5459 (Footprint not found)
pins: A1 GND_1, A4 VBUS_1, A5 CC1, A6 DP1, A7 DN1, A9 VBUS_2, A12 GND_2, B1 GND_4, B4 VBUS_4, B5 CC2, B6 DP2, B7 DN2, B9 VBUS_3, B12 GND_3, MP1, MP2, MP3, MP4

## KLS1-DC-005A-2.0
designator XS?, comment DC 2.1*5.5mm
CONN DC JACK DIP 2.1*5.5mm; Manufacturer_Name: KLS Electronic; Manufacturer_Part_Number: KLS1-DC-005A-2.0; Height: 2mm
footprint KLS1-DC-005A
pins: 2, 3, 4

## KLS1-SIM-044C-6P-R
designator J?
Connector; Manufacturer_Name: Ningbo; Manufacturer_Part_Number: L-KLS1-SIM-044C-6P-R; Datasheet Link: http://cnkls.com/admin/product_upload/20190319142459L-KLS1-SIM-044C.pdf; Height: 1.85mm
footprint LKLS1SIM044C6PR
pins: C1 VCC, C2 RST, C3 CLK, C5 GND, C6 VPP, C7 I/O, MP1, MP2, MP3, MP4

## KLS1-SMA001
designator J?, comment SMA
Connector, SMA, Vertical; Manufacturer_Name: KLS; Manufacturer_Part_Number: KLS1-SMA001; Datasheet Link: https://static.chipdip.ru/lib/528/DOC059528548.pdf
footprint 5-1814832-1; pin to pad 2>2+3+4+5
pins: 1 SIGNAL, 2 GND

## KLS1-SMA006
designator J?, comment SMA
Connector, SMA, Right Angle, 17mm; Manufacturer_Name: KLS; Manufacturer_Part_Number: KLS1-SMA001; Datasheet Link: https://static.chipdip.ru/lib/528/DOC059528548.pdf
footprint KLS1-006; pin to pad 2>2+3+4+5
pins: 1 SIGNAL, 2 GND

## KLS1-SMA006B
designator J?, comment SMA
Connector, SMA, Right Angle, 20.5mm; Manufacturer_Name: KLS; Manufacturer_Part_Number: KLS1-SMA001; Datasheet Link: https://static.chipdip.ru/lib/528/DOC059528548.pdf
footprint KLS1-006B; pin to pad 2>2+3+4+5
pins: 1 SIGNAL, 2 GND

## KLS3-MIC2718
designator MIC?, comment Microphone
Silicon MEMS Omni-directional Microphone
footprint KLS3-MIC2718
pins: 1 VDD, 2 OUT, 3 GND

## KLS5-243
designator F?
Fuse Holder, 5.2*20mm; Manufacturer_Name: KLS; Manufacturer_Part_Number: KLS5-243; Datasheet Link: https://www.klsele.com/admin/product_upload/20140310125749KLS5-242.pdf; Height: 11 mm
footprint KLS5-243 (Footprint not found)
footprint KLS5-242 (Fuse Holder, 5.2*20mm)
pins: 1 +VIN, 2 -VIN

## KLS5-CR1220-02
designator BT?
Battery Holder, Horizontal, SMD, CR1220; Manufacturer_Name: KLS Electronic; Manufacturer_Part_Number: KLS5-CR2032-31; Datasheet Link: https://cdn.ozdisan.com/ETicaret_Dosya/497432_334345.pdf; Height: 5.1mm
footprint KLS5CR122002
pins: NEG -, POS +

## KLS5-CR2032-01
designator BT?
Battery Holder, Horizontal, CR2032; Manufacturer_Name: KLS Electronic; Manufacturer_Part_Number: KLS5-CR2032-31; Datasheet Link: https://cdn.ozdisan.com/ETicaret_Dosya/497432_334345.pdf; Height: 5.1mm
footprint KLS5CR203201
pins: 1 +, 2 -

## KLS5-CR2032-04
designator BAT?, comment CR2032 Holder
Battery Holder, Vertical, CR2032; Manufacturer_Name: KLS Electronic; Manufacturer_Part_Number: KLS5-CR2032-04; Datasheet Link: http://www.klsele.com/admin/product_upload/20151124101114KLS5-CR2032-04.pdf; Height: 18.13mm
footprint KLS5CR203204
pins: 1 +, 2 +, 3 -

## KLS7-DS-01-B-00
designator S?
Switch; Manufacturer_Name: KLS Electronic; Manufacturer_Part_Number: KLS7-DS-01-B-00; Datasheet Link: https://static.chipdip.ru/lib/842/DOC003842989.pdf; Height: 6.9mm
footprint KLS7DS01B00
pins: 1 COM, 2 NO

## KLS7-DST-02-R
designator S?
DIP Switch 2P Blue; Manufacturer_Name: KLS; Manufacturer_Part_Number: KLS7-DST-02-R; Datasheet Link: https://www.klsconnector.com/wp-content/uploads/20200522104221KLS7-DST.pdf; Height: 6.6
footprint KLS7-DS02-B
part A pins: 1, 4
part B pins: 2, 3

## KLS7-DST-03-R
designator S?
DIP Switch 3P Blue; Manufacturer_Name: KLS; Manufacturer_Part_Number: KLS7-DST-03-R; Datasheet Link: https://www.klsconnector.com/wp-content/uploads/20200522104221KLS7-DST.pdf; Height: 6.6
footprint KLS7-DS03-B
part A pins: 1, 6
part B pins: 2, 5
part C pins: 3, 4

## KLS7-DST-04-R
designator S?
DIP Switch 4P Blue; Manufacturer_Name: KLS; Manufacturer_Part_Number: KLS7-DST-04-R; Datasheet Link: https://www.klsconnector.com/wp-content/uploads/20200522104221KLS7-DST.pdf; Height: 6.6
footprint KLS7-DS04-B
footprint KLS7-DS04-B_WING
part A pins: 1, 8
part B pins: 2, 7
part C pins: 3, 6
part D pins: 4, 5

## KLS7-SS03-12D01
designator SW?, comment Slide Switch
Slide Switch, 1P2T; Manufacturer: KLS; Part Number: KLS7-SS03-12D01
footprint KLS7-SS03-12D01
pins: 1, 2 COM, 3

## KLS7-SS12-F44
designator SW?, comment Slide Switch
Slide Switch, 1P2T; Manufacturer: KLS; Part Number: KLS7-SS12-F44
footprint KLS7-SS12F44
pins: 1, 2 COM, 3

## KLS7-TS3606
designator S?
Switch; Manufacturer_Name: KLS Electronic; Manufacturer_Part_Number: KLS7-TS3606; Datasheet Link: http://www.klsele.com/admin/product_upload/20120515131507KLS7-TS3606.pdf; Height: 3.5mm
footprint KLS7TS3606
pins: 1, 2

## KLS7-TS3608-5.0-180
designator S?, comment KLS7-TS3608
Switch Tact; Manufacturer_Name: KLS Electronic; Manufacturer_Part_Number: KLS7-TS3608-5.0-180; Datasheet Link: https://img.klsele.com/admin/product_upload/20120515131419KLS7-TS3608.pdf; Height: 5mm
footprint KLS7TS360850180
pins: 1, 2

## KLS7-TS4502-3.8-100
designator S?, comment KLS7-TS4502
Switch Tact; Manufacturer_Name: KLS Electronic; Manufacturer_Part_Number: KLS7-TS4502-3.8-100; Datasheet Link: https://img.klsele.com/admin/product_upload/20120515131419KLS7-TS3608.pdf; Height: 5mm
footprint KLS7TS4502 (4,5mm tactile button); pin to pad 1>1+2 2>3+4
pins: 1, 2

## KLS7-TS6601-13.0-180
designator S?, comment KLS7-TS6601
Switch Tact, 6mm, 13mmH; Manufacturer_Name: KLS Electronic; Manufacturer_Part_Number: KLS7-TS6604-5.0-180; Datasheet Link: https://img.klsele.com/admin/product_upload/20120515131419KLS7-TS3608.pdf; Height: 5mm
footprint KLS7TS6601 (6x6 mm tactile button); pin to pad 1>1+2 2>3+4
pins: 1, 2

## KLS7-TS6604-5.0-180
designator S?, comment KLS7-TS6604
Switch Tact; Manufacturer_Name: KLS Electronic; Manufacturer_Part_Number: KLS7-TS6604-5.0-180; Datasheet Link: https://img.klsele.com/admin/product_upload/20120515131419KLS7-TS3608.pdf; Height: 5mm
footprint KLS7TS6604 (6 2mm tactile button); pin to pad 1>1+2 2>3+4
pins: 1, 2

## KLS12-107L-2-8P8C-W
designator X?, comment TJ16S-8P8C
Connector, RJ-45; Manufacturer_Name: KLS; Manufacturer_Part_Number: KLS12-107L-2-8P8C; Datasheet Link: https://img.klsele.com/admin/product_upload/20191230125157KLS12-145-8P8C.pdf; Height: 16.63mm
footprint TJ16S-8P8C
pins: 1, 2, 3, 4, 5, 6, 7, 8

## KLS12-108-8P8C-1x1-2-G/Y-0-05
designator J?
Connector, RJ-45, with LED, RA
footprint KLS12-108-8P8C-1x1-G/Y-0-05 (RJ45 Receptacle 1 Shielded Right-Angle WithLED)
pins: 1 BI_DA+, 2 BI_DA-, 3 BI_DB+, 4 BI_DC+, 5 BI_DC-, 6 BI_DB-, 7 BI_DD+, 8 BI_DD-, 9 P10, 10 P9, 11 P12, 12 P11, S SHLD
text: YEL; GRN

## KLS12-145-8P8C-W-B-01
designator X?, comment KLS12-145-8P8C
Connector, RJ-45; Manufacturer_Name: KLS; Manufacturer_Part_Number: KLS12-145-8P8C-W-B-01; Datasheet Link: https://img.klsele.com/admin/product_upload/20191230125157KLS12-145-8P8C.pdf; Height: 16.63mm
footprint KLS12-145-8P8C (Footprint not found)
pins: 1, 2, 3, 4, 5, 6, 7, 8

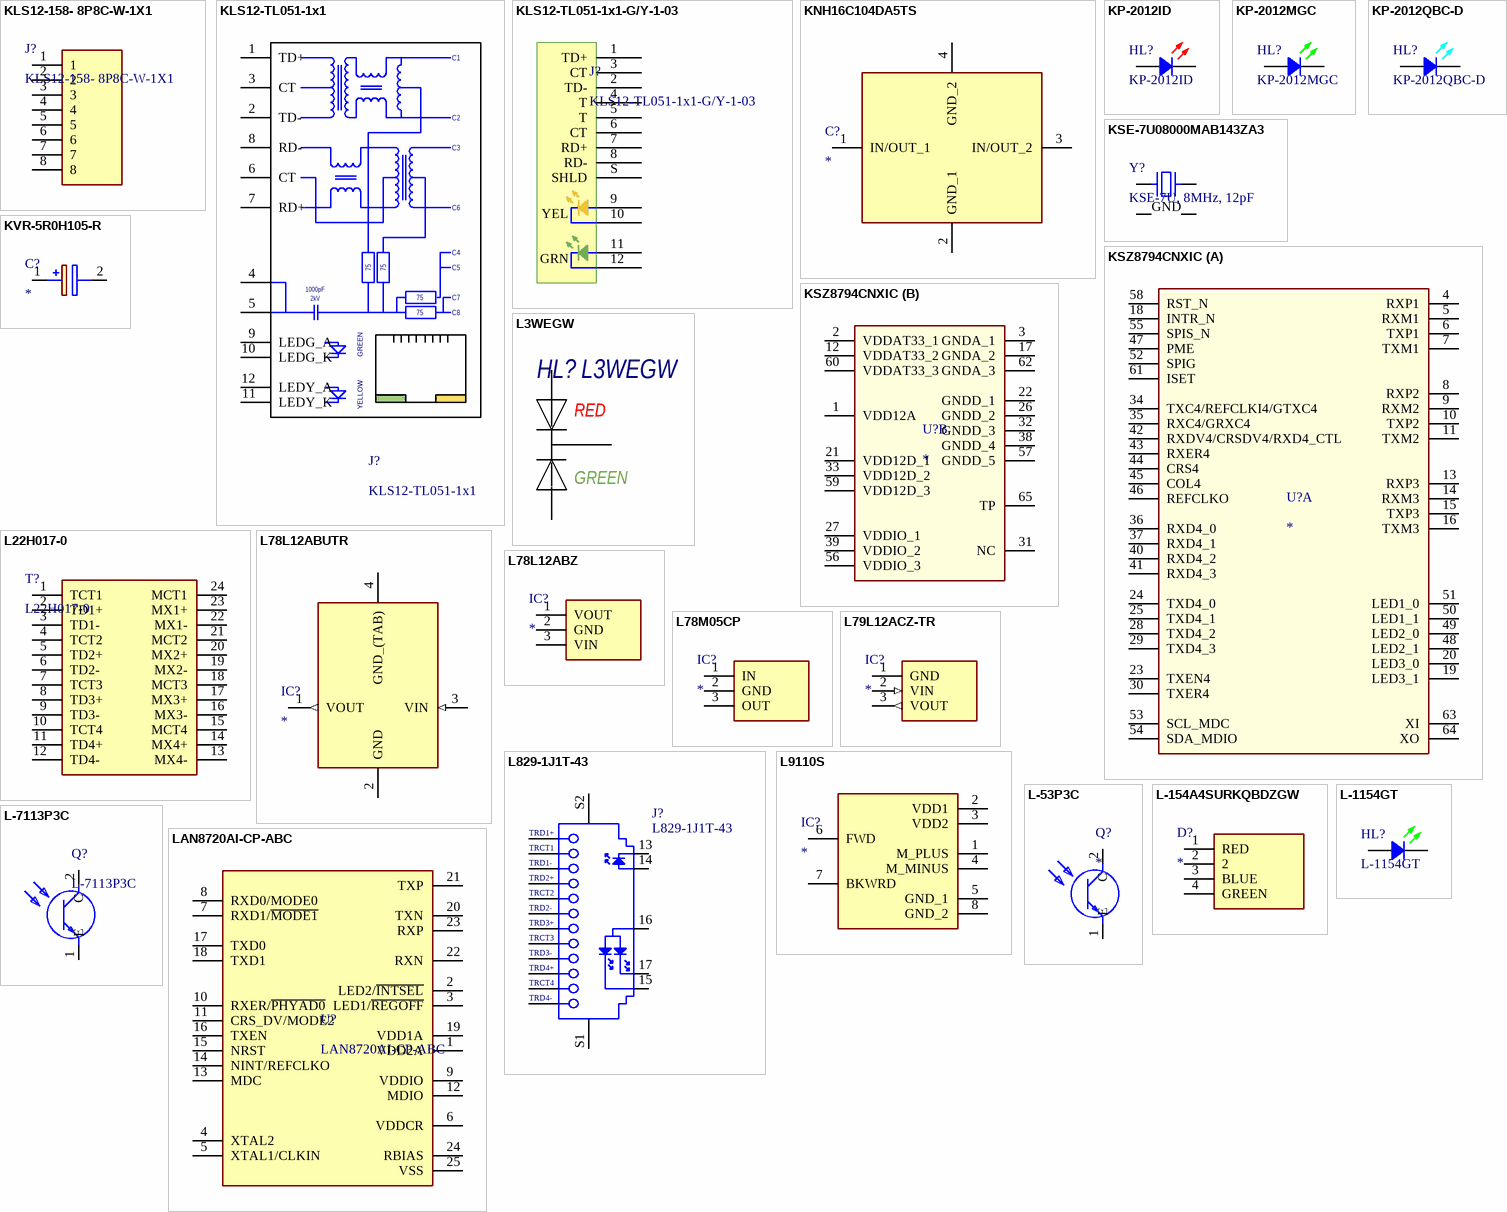
[diagram p24: symbols KLS12-158- 8P8C-W-1X1 to LAN8720AI-CP-ABC]

## KLS12-158- 8P8C-W-1X1
designator J?
Connector, RJ-45; Manufacturer_Name: KLS; Datasheet Link: https://www.promelec.ru/fs/sources/1b/fa/67/08/39a111b4bd5c0bc00b1d2612.pdf; Height: 16.63mm; Manufacturer_Part_Number: KLS12-158- 8P8C-W-1X1
footprint 424108314
pins: 1, 2, 3, 4, 5, 6, 7, 8

## KLS12-TL051-1x1
designator J?
RJ45, 8P8C with magnetic and LEDs
footprint KLS12-TL051-1x1-G/Y-1-03 (Magnetic Jack with transformer leds)
pins: 1 TD+, 2 TD-, 3 CT, 4, 5, 6 CT, 7 RD+, 8 RD-, 9 LEDG_A, 10 LEDG_K, 11 LEDY_K, 12 LEDY_A
text: C1; C2; C3; C6; C4; 75; C5; 1000pF; 2kV; C7; C8; GREEN; YELLOW

## KLS12-TL051-1x1-G/Y-1-03
designator J?
Magnetic Jack
footprint KLS12-TL051-1x1-G/Y-1-03 (Magnetic Jack with transformer leds)
pins: 1 TD+, 2 TD-, 3 CT, 4 T, 5 T, 6 CT, 7 RD+, 8 RD-, 9 P9, 10 P10, 11 P11, 12 P12, S SHLD
text: YEL; GRN

## KNH16C104DA5TS
designator C?
Capacitor Polarised; Manufacturer_Name: Kyocera AVX; Manufacturer_Part_Number: KNH16C104DA5TS; Datasheet Link: https://media.digikey.com/pdf/Data%20Sheets/AVX%20PDFs/KNH16_Series.pdf; Height: 0.7mm; Mouser Part Number: 581-KNH16C104DA5TS; Mouser Price/Stock: https://www.mouser.co.uk/ProductDetail/Kyocera-Electronic-Components/KNH16C104DA5TS?qs=55YtniHzbhB%2FMhEmgkwYng%3D%3D
footprint KNH16C104DA5TS
pins: 1 IN/OUT_1, 2 GND_1, 3 IN/OUT_2, 4 GND_2

## KP-2012ID
designator HL?
LED, 0805, Red; Manufacturer_Name: Kingbright; Datasheet Link: https://static.chipdip.ru/lib/356/DOC011356008.pdf; Height: 1.1mm; Manufacturer_Part_Number: KP-2012ID; Mouser Part Number: N/A; Mouser Price/Stock: https://www.mouser.co.uk/ProductDetail/Kingbright/KP-2012MGC?qs=2JU0tDl2GZ0DzyNwePJZSw%3D%3D; Arrow Part Number: KP-2012ID; Arrow Price/Stock: https://www.arrow.com/en/products/kp-2012mgc/kingbright
footprint LEDC2012X110N_RED
pins: 1 A, 2 C

## KP-2012MGC
designator HL?
LED, 0805, Green; Manufacturer_Name: Kingbright; Datasheet Link: https://datasheet.datasheetarchive.com/originals/distributors/Datasheets-16/DSA-309848.pdf; Height: 1.1mm; Manufacturer_Part_Number: KP-2012MGC; Mouser Part Number: N/A; Mouser Price/Stock: https://www.mouser.co.uk/ProductDetail/Kingbright/KP-2012MGC?qs=2JU0tDl2GZ0DzyNwePJZSw%3D%3D; Arrow Part Number: KP-2012MGC; Arrow Price/Stock: https://www.arrow.com/en/products/kp-2012mgc/kingbright
footprint LEDC2012X110N
pins: 1 A, 2 C

## KP-2012QBC-D
designator HL?
LED, 0805, Blue; Manufacturer_Name: Kingbright; Datasheet Link: https://datasheet.datasheetarchive.com/originals/distributors/Datasheets-16/DSA-309848.pdf; Height: 1.1mm; Manufacturer_Part_Number: KP-2012QBC-D; Mouser Part Number: N/A; Mouser Price/Stock: https://www.mouser.co.uk/ProductDetail/Kingbright/KP-2012MGC?qs=2JU0tDl2GZ0DzyNwePJZSw%3D%3D; Arrow Part Number: KP-2012QBC-D; Arrow Price/Stock: https://www.arrow.com/en/products/kp-2012mgc/kingbright
footprint LEDC2012X110N_blue
pins: 1 A, 2 C

## KSE-7U08000MAB143ZA3
designator Y?, comment KSE-7U, 8MHz, 12pF
Crystal or Oscillator, 8MHz, 12pF, 3225; Manufacturer_Name: KEEN SIDE; Manufacturer_Part_Number: DSX321G-25M; Datasheet Link: https://static.chipdip.ru/lib/163/DOC045163688.pdf; Height: 0.7mm
footprint DSX321G20M
pins: 1, 2 GND, 3, 4 GND

## KSZ8794CNXIC
designator U?
Integrated Circuit; Manufacturer_Name: Microchip; Manufacturer_Part_Number: KSZ8794CNXIC; Datasheet Link: http://www.farnell.com/datasheets/2175963.pdf; Height: 0.9mm; Mouser Part Number: 998-KSZ8794CNXIC; Mouser Price/Stock: https://www.mouser.co.uk/ProductDetail/Microchip-Technology-Micrel/KSZ8794CNXIC?qs=%2Fc0cCNcL7XyI05Q4%252BqTErw%3D%3D; Arrow Part Number: KSZ8794CNXIC; Arrow Price/Stock: https://www.arrow.com/en/products/ksz8794cnxic/microchip-technology
footprint QFN40P800X800X90-65N
part A pins: 4 RXP1, 5 RXM1, 6 TXP1, 7 TXM1, 8 RXP2, 9 RXM2, 10 TXP2, 11 TXM2, 13 RXP3, 14 RXM3, 15 TXP3, 16 TXM3, 18 INTR_N, 19 LED3_1, 20 LED3_0, 23 TXEN4, 24 TXD4_0, 25 TXD4_1, 28 TXD4_2, 29 TXD4_3, 30 TXER4, 34 TXC4/REFCLKI4/GTXC4, 35 RXC4/GRXC4, 36 RXD4_0, 37 RXD4_1, 40 RXD4_2, 41 RXD4_3, 42 RXDV4/CRSDV4/RXD4_CTL, 43 RXER4, 44 CRS4, 45 COL4, 46 REFCLKO, 47 PME, 48 LED2_1, 49 LED2_0, 50 LED1_1, 51 LED1_0, 52 SPIG, 53 SCL_MDC, 54 SDA_MDIO, 55 SPIS_N, 58 RST_N, 61 ISET, 63 XI, 64 XO
part B pins: 1 VDD12A, 2 VDDAT33_1, 3 GNDA_1, 12 VDDAT33_2, 17 GNDA_2, 21 VDD12D_1, 22 GNDD_1, 26 GNDD_2, 27 VDDIO_1, 31 NC, 32 GNDD_3, 33 VDD12D_2, 38 GNDD_4, 39 VDDIO_2, 56 VDDIO_3, 57 GNDD_5, 59 VDD12D_3, 60 VDDAT33_3, 62 GNDA_3, 65 TP

## KVR-5R0H105-R
designator C?
Capacitor Polarised; Manufacturer_Name: Eaton; Manufacturer_Part_Number: KVR-5R0H105-R; Datasheet Link: https://www.eaton.com/content/dam/eaton/products/electronic-components/resources/data-sheet/eaton-kvr-supercapacitors-coin-cells-data-sheet-elx1175-en.pdf; Height: 6.3mm; Mouser Part Number: 504-KVR-5R0H105-R; Mouser Price/Stock: https://www.mouser.co.uk/ProductDetail/PowerStor-Eaton/KVR-5R0H105-R?qs=4ASt3YYao0X6olg4e7LOwg%3D%3D
footprint KVR5R0H105R
pins: 1 +, 2 -

## L3WEGW
designator HL?
LED BI-COLOR 3mm; Type: Индикатор единичный; Published: 03.12.2013; Publisher: Артем Голубев
footprint L3WEGW (LED 3MM, BI-COLOR)
pins: 1 А_R "Анод", 2 К "Катод", 3 А_G "Анод"
1 alternate drawing of the same symbol
text: RED; GREEN

## L22H017-0
designator T?
2.5G BaseT / Single Port LAN Filter; Manufacturer_Name: UDE; Datasheet Link: https://www.ude-corp.com/archive/product/item/Datasheet/L22H017-0.pdf; Height: 4; Manufacturer_Part_Number: L22H017-0
footprint SOP99P1000X432-24N
pins: 1 TCT1, 2 TD1+, 3 TD1-, 4 TCT2, 5 TD2+, 6 TD2-, 7 TCT3, 8 TD3+, 9 TD3-, 10 TCT4, 11 TD4+, 12 TD4-, 13 MX4-, 14 MX4+, 15 MCT4, 16 MX3-, 17 MX3+, 18 MCT3, 19 MX2-, 20 MX2+, 21 MCT2, 22 MX1-, 23 MX1+, 24 MCT1

## L78L12ABUTR
designator IC?
Integrated Circuit; Manufacturer_Name: STMicroelectronics; Manufacturer_Part_Number: L78L12ABUTR; Datasheet Link: https://www.st.com/resource/en/datasheet/l78l.pdf; Mouser Part Number: 511-L78L12ABUTR; Mouser Price/Stock: https://www.mouser.co.uk/ProductDetail/STMicroelectronics/L78L12ABUTR?qs=22WmWNTp1rqV64PB%252BTvXVQ%3D%3D; Arrow Part Number: L78L12ABUTR; Arrow Price/Stock: https://www.arrow.com/en/products/l78l12abutr/stmicroelectronics?region=nac
footprint ST-SOT-89
pins: 1 VOUT (out), 2 GND (power), 3 VIN (in), 4 GND_(TAB) (power)

## L78L12ABZ
designator IC?
Integrated Circuit; Manufacturer_Name: STMicroelectronics; Manufacturer_Part_Number: L78L12ABZ; Datasheet Link: https://www.st.com/resource/en/datasheet/l78l.pdf; Height: 4.95mm; Mouser Part Number: 511-L78L12ABZ; Mouser Price/Stock: https://www.mouser.co.uk/ProductDetail/STMicroelectronics/L78L12ABZ?qs=JquAdH79urYX0IHa2GaUkg%3D%3D; Arrow Part Number: L78L12ABZ; Arrow Price/Stock: https://www.arrow.com/en/products/l78l12abz/stmicroelectronics?region=europe
footprint TS1107A1AP
pins: 1 VOUT (power), 2 GND (power), 3 VIN (power)

## L78M05CP
designator IC?
Integrated Circuit; Manufacturer_Name: STMicroelectronics; Manufacturer_Part_Number: L78M05CP; Datasheet Link: http://www.st.com/web/en/resource/technical/document/datasheet/CD00000447.pdf; Height: 4.6mm; Mouser Part Number: 511-L78M05CP; Mouser Price/Stock: https://www.mouser.co.uk/ProductDetail/STMicroelectronics/L78M05CP?qs=W%252B4obUA0F3anQylSbAkrfw%3D%3D; Arrow Part Number: L78M05CP; Arrow Price/Stock: https://www.arrow.com/en/products/l78m05cp/stmicroelectronics?region=europe
footprint TO255P460X1020X2030-3P
pins: 1 IN (power), 2 GND (power), 3 OUT (power)

## L79L12ACZ-TR
designator IC?
Integrated Circuit; Manufacturer_Name: STMicroelectronics; Manufacturer_Part_Number: L79L12ACZ-TR; Datasheet Link: https://www.st.com/resource/en/datasheet/l79l.pdf; Height: 4.95mm; Mouser Part Number: 511-L79L12ACZ-TR; Mouser Price/Stock: https://www.mouser.co.uk/ProductDetail/STMicroelectronics/L79L12ACZ-TR?qs=2UmUEagh6QrsxOFbYFnWxg%3D%3D; Arrow Part Number: L79L12ACZ-TR; Arrow Price/Stock: https://www.arrow.com/en/products/l79l12acz-tr/stmicroelectronics?region=nac
footprint TS1107A1AP
pins: 1 GND (power), 2 VIN (in), 3 VOUT (out)

## L829-1J1T-43
designator J?
Gigabit MagJack(R) Ultra Low Profile, 10/100/1000 Base-T, 19-Pin THD, RoHS, Tray; Width: 24.13 mm; RoHSCompliant: True; PartNumber: L829-1J1T-43; Case/Package: Metal; Mount: Through Hole; ComponentLink1Description: Manufacturer URL; Height: 11.3 mm; Package Quantity: 60; Packaging: Tray; Length: 17.78 mm; PackageDescription: 19-Pin Through Hole Device, Body 23.94 x 17.58 mm, Pitch 2.03 mm; ComponentLink2URL: http://belfuse.com/pdfs/L829-1J1T-43.pdf; ComponentLink1URL: http://belfuse.com/ethernet/; Mounting Technology: Through Hole; DatasheetVersion: Rev. G; Pins: 8; ComponentLink2Description: Datasheet
footprint BELS-L829-1J1T-43_V
pins: 1 TRD1+, 2 TRCT1, 3 TRD1-, 4 TRD2+, 5 TRCT2, 6 TRD2-, 7 TRD3+, 8 TRCT3, 9 TRD3-, 10 TRD4+, 11 TRCT4, 12 TRD4-, 13, 14, 15, 16, 17, S1, S2

## L9110S
designator IC?
Integrated Circuit; Manufacturer_Name: Wuxi I-core Elec; Manufacturer_Part_Number: L9110S; Datasheet Link: https://datasheet.lcsc.com/szlcsc/Wuxi-Zhongwei-Aisin-Elec-L9110S_C85174.pdf; Height: 1.75mm
footprint SOIC127P600X175-8N
pins: 1 M_PLUS, 2 VDD1, 3 VDD2, 4 M_MINUS, 5 GND_1, 6 FWD, 7 BKWRD, 8 GND_2

## L-53P3C
designator Q?
Phototransistor; Manufacturer_Name: Kingbright; Manufacturer_Part_Number: L-53P3C; Datasheet Link: https://www.farnell.com/datasheets/1683594.pdf; Height: 9.85mm; Mouser Part Number: N/A; Mouser Price/Stock: https://www.mouser.com/Search/Refine.aspx?Keyword=N%2FA; Arrow Part Number: L-53P3C; Arrow Price/Stock: https://www.arrow.com/en/products/l-53p3c/kingbright
footprint L53P3C
pins: 1 E, 2 C

## L-154A4SURKQBDZGW
designator D?
Diode; Manufacturer_Name: Kingbright; Manufacturer_Part_Number: L-154A4SURKQBDZGW; Mouser Part Number: N/A; Mouser Price/Stock: https://www.mouser.co.uk/ProductDetail/Kingbright/L-154A4SURKQBDZGW?qs=2JU0tDl2GZ2gTi%2F5%252BRufqQ%3D%3D; Arrow Part Number: L-154A4SURKQBDZGW; Arrow Price/Stock: https://www.arrow.com/en/products/l-154a4surkqbdzgw/kingbright
footprint KNIGHTBRIGHT-1.27PITCH-4PIN
pins: 1 RED, 2, 3 BLUE, 4 GREEN

## L-1154GT
designator HL?
LED, 3mm, Green; Manufacturer_Name: Kingbright; Datasheet Link: https://static.chipdip.ru/lib/195/DOC000195138.pdf; Manufacturer_Part_Number: L-1154GT; Mouser Part Number: N/A; Mouser Price/Stock: https://www.mouser.co.uk/ProductDetail/Kingbright/L-1154GT?qs=2JU0tDl2GZ2IKSfxbyKuMQ%3D%3D
footprint LED_3MM_GREEN
pins: A, C

## L-7113P3C
designator Q?
Phototransistor; Manufacturer_Name: Kingbright; Manufacturer_Part_Number: L-53P3C; Datasheet Link: https://www.farnell.com/datasheets/1683594.pdf; Height: 9.85mm; Mouser Part Number: N/A; Mouser Price/Stock: https://www.mouser.com/Search/Refine.aspx?Keyword=N%2FA; Arrow Part Number: L-53P3C; Arrow Price/Stock: https://www.arrow.com/en/products/l-53p3c/kingbright
footprint L53P3C
pins: 1 E, 2 C

## LAN8720AI-CP-ABC
designator U?
10/100 Base-T/TX Ethernet Transceiver with RMII Interface; Manufacturer_Name: Microchip; Datasheet Link: http://www.microchip.com/mymicrochip/filehandler.aspx?ddocname=en586588; Height: 1mm; Manufacturer_Part_Number: LAN8720AI-CP-ABC; Mouser Part Number: 579-LAN8720AI-CP-ABC; Mouser Price/Stock: https://www.mouser.co.uk/ProductDetail/Microchip-Technology/LAN8720AI-CP-ABC?qs=hxOdJ78B8ntmoAF5rclddw%3D%3D; Arrow Part Number: LAN8720AI-CP-ABC; Arrow Price/Stock: https://www.arrow.com/en/products/lan8720ai-cp-abc/microchip-technology?region=nac
footprint QFN50P400X400X100-25N-D
pins: 1 VDD2A, 2 LED2/~{INTSEL}, 3 LED1/~{REGOFF}, 4 XTAL2, 5 XTAL1/CLKIN, 6 VDDCR, 7 RXD1/~{MODE1}, 8 RXD0/MODE0, 9 VDDIO, 10 RXER/~{PHYAD0}, 11 CRS_DV/MODE2, 12 MDIO, 13 MDC, 14 NINT/REFCLKO, 15 NRST, 16 TXEN, 17 TXD0, 18 TXD1, 19 VDD1A, 20 TXN, 21 TXP, 22 RXN, 23 RXP, 24 RBIAS, 25 VSS

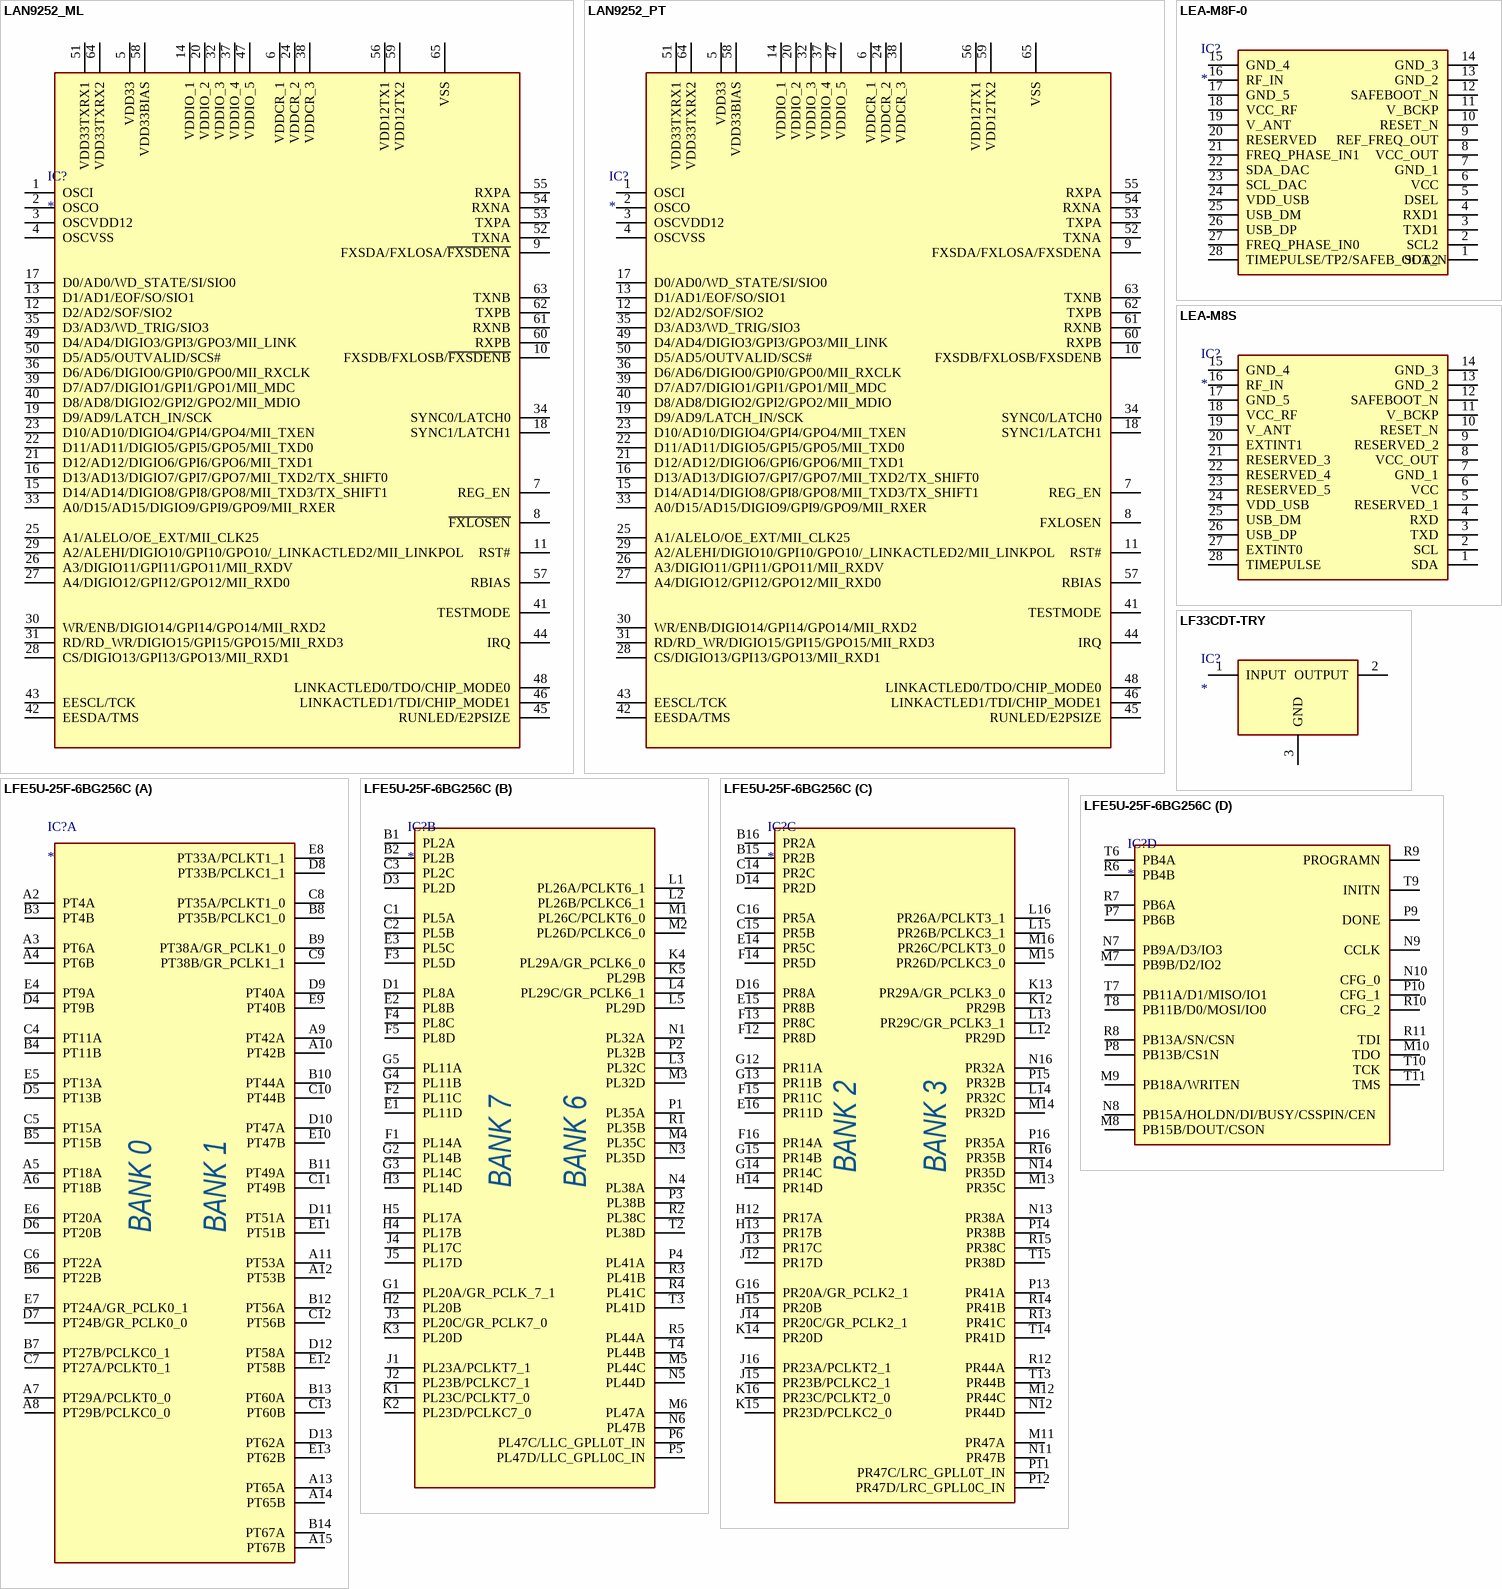
[diagram p25: symbols LAN9252_ML to LFE5U-25F-6BG256C]

## LAN9252_ML
designator IC?
Integrated Circuit; Manufacturer_Name: Microchip; Manufacturer_Part_Number: LAN9252/ML; Datasheet Link: https://componentsearchengine.com/Datasheets/1/LAN9252_ML.pdf; Height: 1mm; Mouser Part Number: 579-LAN9252/ML; Mouser Price/Stock: https://www.mouser.co.uk/ProductDetail/Microchip-Technology/LAN9252-ML?qs=%252ByRm1sYhYIl68yMSuZ2bQg%3D%3D; Arrow Part Number: LAN9252/ML; Arrow Price/Stock: https://www.arrow.com/en/products/lan9252ml/microchip-technology?utm_currency=USD&region=nac
footprint QFN50P900X900X100-65N-D
pins: 1 OSCI, 2 OSCO, 3 OSCVDD12, 4 OSCVSS, 5 VDD33, 6 VDDCR_1, 7 REG_EN, 8 ~{FXLOSEN}, 9 FXSDA/FXLOSA/~{FXSDENA}, 10 FXSDB/FXLOSB/~{FXSDENB}, 11 RST#, 12 D2/AD2/SOF/SIO2, 13 D1/AD1/EOF/SO/SIO1, 14 VDDIO_1, 15 D14/AD14/DIGIO8/GPI8/GPO8/MII_TXD3/TX_SHIFT1, 16 D13/AD13/DIGIO7/GPI7/GPO7/MII_TXD2/TX_SHIFT0, 17 D0/AD0/WD_STATE/SI/SIO0, 18 SYNC1/LATCH1, 19 D9/AD9/LATCH_IN/SCK, 20 VDDIO_2, 21 D12/AD12/DIGIO6/GPI6/GPO6/MII_TXD1, 22 D11/AD11/DIGIO5/GPI5/GPO5/MII_TXD0, 23 D10/AD10/DIGIO4/GPI4/GPO4/MII_TXEN, 24 VDDCR_2, 25 A1/ALELO/OE_EXT/MII_CLK25, 26 A3/DIGIO11/GPI11/GPO11/MII_RXDV, 27 A4/DIGIO12/GPI12/GPO12/MII_RXD0, 28 CS/DIGIO13/GPI13/GPO13/MII_RXD1, 29 A2/ALEHI/DIGIO10/GPI10/GPO10/_LINKACTLED2/MII_LINKPOL, 30 WR/ENB/DIGIO14/GPI14/GPO14/MII_RXD2, 31 RD/RD_WR/DIGIO15/GPI15/GPO15/MII_RXD3, 32 VDDIO_3, 33 A0/D15/AD15/DIGIO9/GPI9/GPO9/MII_RXER, 34 SYNC0/LATCH0, 35 D3/AD3/WD_TRIG/SIO3, 36 D6/AD6/DIGIO0/GPI0/GPO0/MII_RXCLK, 37 VDDIO_4, 38 VDDCR_3, 39 D7/AD7/DIGIO1/GPI1/GPO1/MII_MDC, 40 D8/AD8/DIGIO2/GPI2/GPO2/MII_MDIO, 41 TESTMODE, 42 EESDA/TMS, 43 EESCL/TCK, 44 IRQ, 45 RUNLED/E2PSIZE, 46 LINKACTLED1/TDI/CHIP_MODE1, 47 VDDIO_5, 48 LINKACTLED0/TDO/CHIP_MODE0, 49 D4/AD4/DIGIO3/GPI3/GPO3/MII_LINK, 50 D5/AD5/OUTVALID/SCS#, 51 VDD33TXRX1, 52 TXNA, 53 TXPA, 54 RXNA, 55 RXPA, 56 VDD12TX1, 57 RBIAS, 58 VDD33BIAS, 59 VDD12TX2, 60 RXPB, 61 RXNB, 62 TXPB, 63 TXNB, 64 VDD33TXRX2, 65 VSS